# EAGLE library part BZA408B (library diodes_ben)
Nexperia BZA408B 5V TVS diode Datasheet <http://www.mouser.com/ds/2/302/BZA408B-841090.pdf>
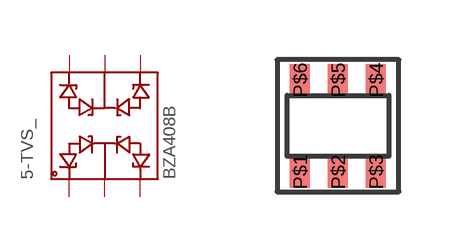
[diagram p0: symbol with the pads of SOT457; footprint SOT457]

Designator prefix 5-TVS_

## BZA408B  [SOT457]
P$1  P$1
P$2  P$2
P$3  P$3
P$4  P$4
P$5  P$5
P$6  P$6

## Footprint SOT457 (pad centres in mm)
smd 0.5 x 0.8: P$1 -0.95,-1.15; P$2 0,-1.15; P$3 0.95,-1.15; P$4 0.95,1.15; P$5 0,1.15; P$6 -0.95,1.15